# Altium schematic symbol library conn9.SchLib: 1 symbol
Pins are listed as number, name and electrical type; pins without a type are passive.

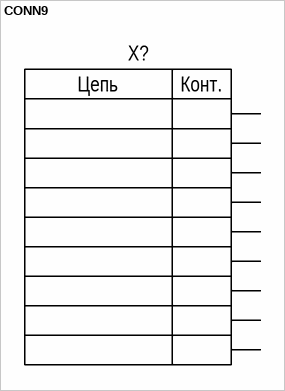
[diagram p0: symbol CONN9]

## CONN9
designator X?  (value not drawn)
pins: 1, 2, 3, 4, 5, 6, 7, 8, 9
text: Цепь; Конт.